# EAGLE library part MIDI_VERT (library synth_design)
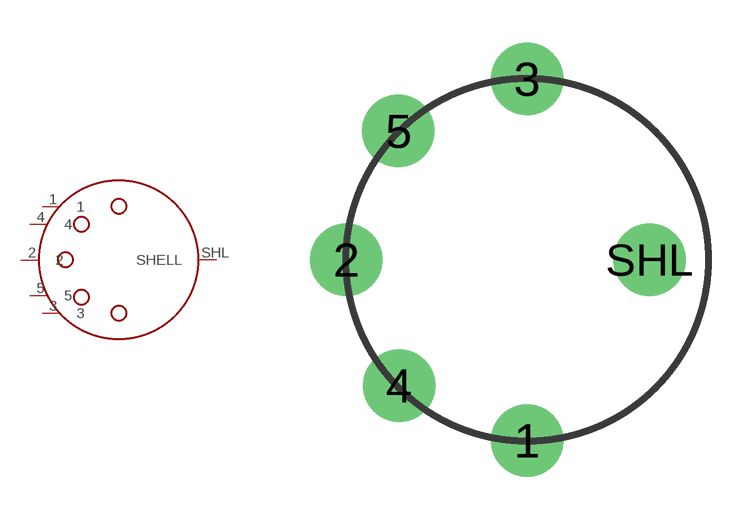
[diagram p1: symbol with the pads of DIN-5_VERT; footprint DIN-5_VERT]

Designator prefix -

## MIDI_VERT  [DIN-5_VERT]
1  1  in
2  2  in
3  3  in
4  4  in
5  5  in
SHL  SHELL  in

## Footprint DIN-5_VERT (pad centres in mm)
drill 1.2 pad 2.54: 1 0,-6.35; 2 -6.35,0; 3 0,6.35; 4 -4.496,-4.42; 5 -4.521,4.521; SHL 4.293,0